# Altium schematic symbol library Connectors.SchLib: 60 symbols
Pins are listed as number, name and electrical type; pins without a type are passive.

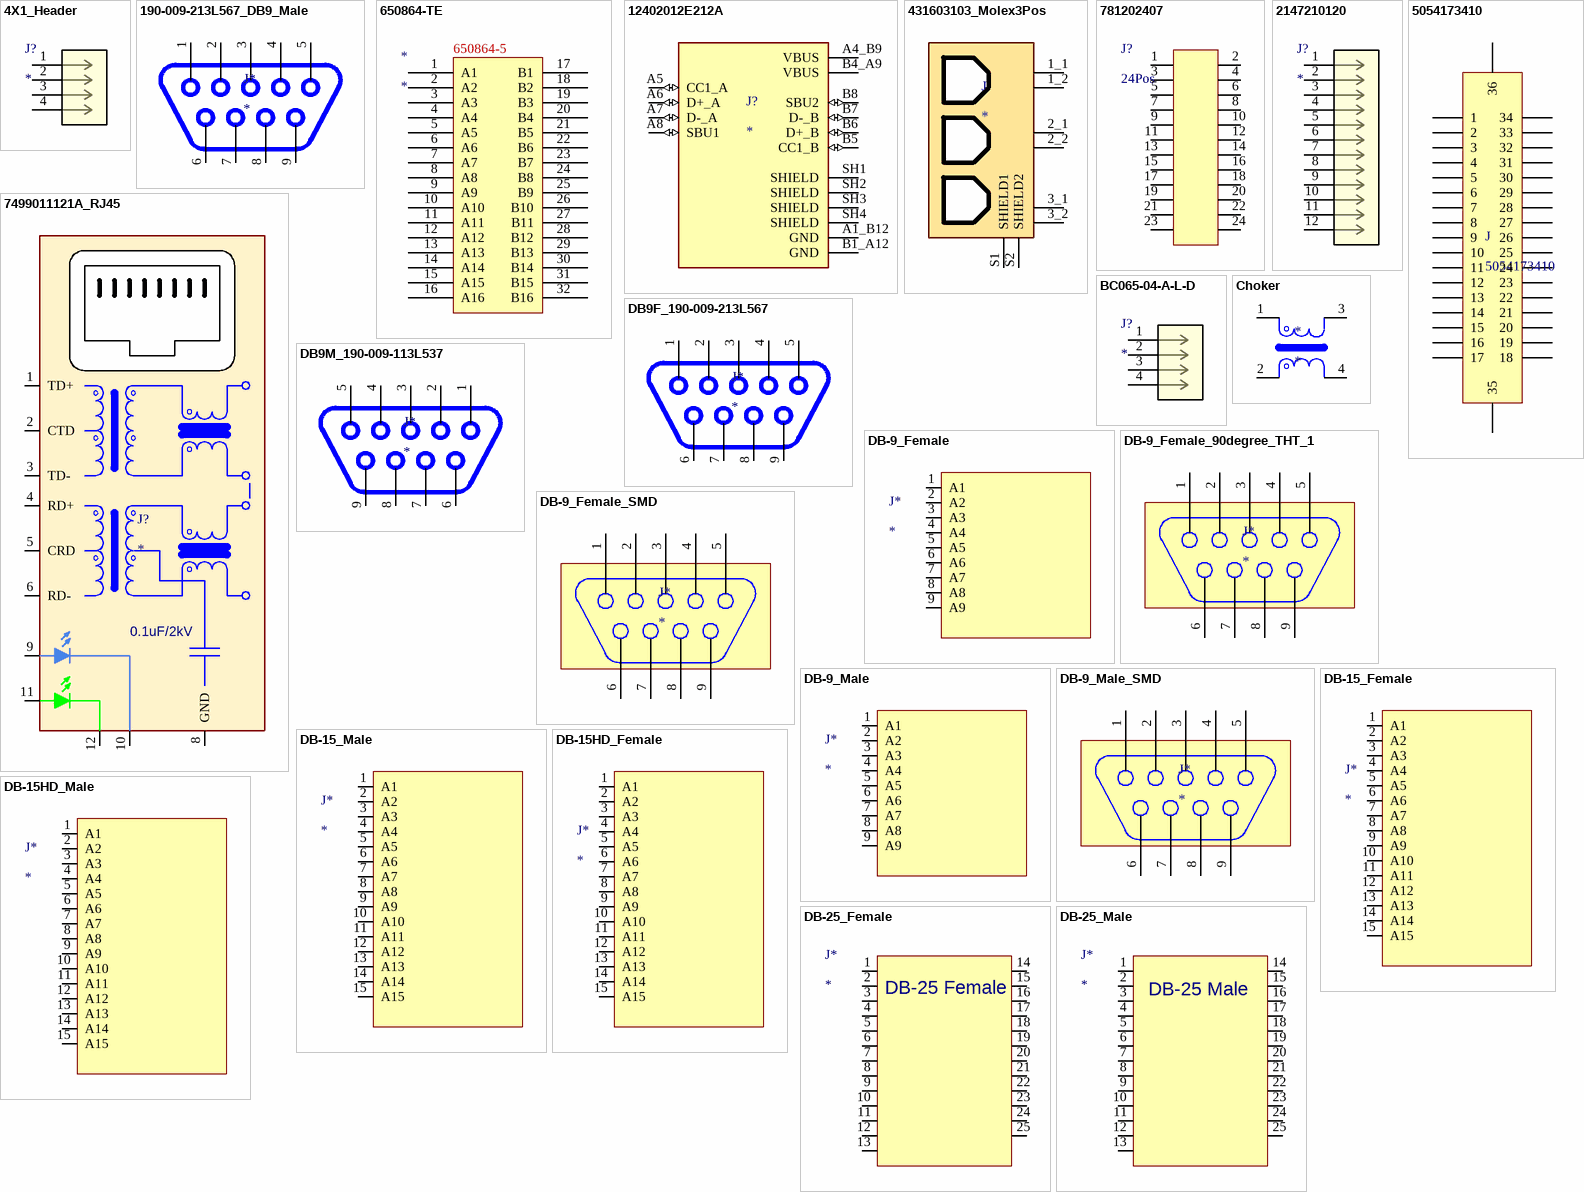
[diagram p0: symbols 4X1_Header to DB-25_Male]

## 4X1_Header
designator J?
No Description Available; Mfr_Name: Global Connector Technology; Type: Headers, Receptacles, Female Sockets; RefDes: RefDes
footprint 4x1_Header
pins: 1, 2, 3, 4

## 190-009-213L567_DB9_Male
designator J*
DB9_Male_90_degree
footprint DB9_Female-SMD (Footprint not found)
pins: 1 A1, 2 A2, 3 A3, 4 A4, 5 A5, 6 A6, 7 A7, 8 A8, 9 A9

## 650864-TE
designator *
footprint 650864-TE (Footprint not found)
pins: 1 A1, 2 A2, 3 A3, 4 A4, 5 A5, 6 A6, 7 A7, 8 A8, 9 A9, 10 A10, 11 A11, 12 A12, 13 A13, 14 A14, 15 A15, 16 A16, 17 B1, 18 B2, 19 B3, 20 B4, 21 B5, 22 B6, 23 B7, 24 B8, 25 B9, 26 B10, 27 B11, 28 B12, 29 B13, 30 B14, 31 B15, 32 B16
text: 650864-5

## 12402012E212A
designator J?
USB2.0, Type C, Top mount, CH 1.68mm, Dual Row SMT; MP: 12402012E212A; MF: Amphenol ICC (Commercial Products); Price: None; Package: None; Availability: In Stock; SnapEDA_Link: https://www.snapeda.com/parts/12402012E212A/Amphenol/view-part/?ref=snap; Value: *; Check_prices: https://www.snapeda.com/parts/12402012E212A/Amphenol/view-part/?ref=eda; Purchase-URL: https://pricing.snapeda.com/search/part/12402012E212A/?ref=eda
footprint AMPHENOL_12402012E212A
pins: A1_B12 GND, A4_B9 VBUS (power), A5 CC1_A (io), A6 D+_A (io), A7 D-_A (io), A8 SBU1 (io), B1_A12 GND, B4_A9 VBUS (power), B5 CC1_B (io), B6 D+_B (io), B7 D-_B (io), B8 SBU2 (io), SH1 SHIELD, SH2 SHIELD, SH3 SHIELD, SH4 SHIELD

## 431603103_Molex3Pos
designator J
pins: 1_1, 1_2, 2_1, 2_2, 3_1, 3_2, S1 SHIELD1, S2 SHIELD2

## 781202407
designator J?, comment 24Pos
MP: 781202407; Package: None; Price: None; Value: *; Availability: Unavailable
footprint CONN_781200001_24_MOL
pins: 1, 2, 3, 4, 5, 6, 7, 8, 9, 10, 11, 12, 13, 14, 15, 16, 17, 18, 19, 20, 21, 22, 23, 24

## 2147210120
designator J?
12-Pin Molex Conn; Mfr_Name: Molex Connector Corporation; RefDes: RefDes; Type: Type
footprint 2147210120_MOL_CONN12
pins: 1, 2, 3, 4, 5, 6, 7, 8, 9, 10, 11, 12

## 5054173410
designator J
2 x 17 + 2 x PWR Dual Row Header / NanoDrive Control Conn
footprint 5054173410 (Footprint not found)
pins: 1, 2, 3, 4, 5, 6, 7, 8, 9, 10, 11, 12, 13, 14, 15, 16, 17, 18, 19, 20, 21, 22, 23, 24, 25, 26, 27, 28, 29, 30, 31, 32, 33, 34, 35, 36

## 7499011121A_RJ45
designator J?
1 Port RJ45 Magjack Connector Through Hole 10/100 Base-TX, AutoMDIX; MP: J00-0065NL; MF: Pulse Electronics; Purchase-URL: https://pricing.snapeda.com/search/part/J00-0065NL/?ref=eda; Package: None; Price: None; Availability: Good; SnapEDA_Link: https://www.snapeda.com/parts/J00-0065NL/Pulse%20Electronics%20Network/view-part/46850/?ref=snap; Value: *; Check_prices: https://www.snapeda.com/parts/J00-0065NL/Pulse%20Electronics%20Network/view-part/46850/?ref=eda
footprint 7499011121A_RJ45 (Footprint not found)
pins: 1 TD+, 2 CTD, 3 TD-, 4 RD+, 5 CRD, 6 RD-, 8 GND, 9 LL1, 10 LL2, 11 RL1, 12 RL2
text: 0.1uF/2kV

## BC065-04-A-L-D
designator J?
STLink Programmer 4Pos 1.27mm Pitch; Mfr_Name: Global Connector Technology; Type: Headers, Receptacles, Female Sockets; RefDes: RefDes
footprint CONN4_BC065_189x59_GCT
pins: 1, 2, 3, 4

## Choker
designator *
Choker 2 Lane / SRF1280-4R7Y
pins: 1, 2, 3 4, 4

## DB9F_190-009-213L567
designator J*
DB9_Female_90_degree
footprint DB9F_190-009-213L567
pins: 1 A1, 2 A2, 3 A3, 4 A4, 5 A5, 6 A6, 7 A7, 8 A8, 9 A9

## DB9M_190-009-113L537
designator J*
DB9_Female_90_degree
footprint DB9M_190-009-113L537 (Footprint not found)
pins: 1 A1, 2 A2, 3 A3, 4 A4, 5 A5, 6 A6, 7 A7, 8 A8, 9 A9

## DB-9_Female
designator J*
footprint DB9_Female (SD9S-TRAY)
pins: 1 A1, 2 A2, 3 A3, 4 A4, 5 A5, 6 A6, 7 A7, 8 A8, 9 A9

## DB-9_Female_90degree_THT_1
designator J*
A-DF 09 A/KG-T2S
footprint DB9_Female_THT_90degree - duplicate
pins: 1 A1, 2 A2, 3 A3, 4 A4, 5 A5, 6 A6, 7 A7, 8 A8, 9 A9

## DB-9_Female_SMD
designator J*
A-DF 09 A/KG-T2S
footprint DB9_Female-SMD (Footprint not found)
pins: 1 A1, 2 A2, 3 A3, 4 A4, 5 A5, 6 A6, 7 A7, 8 A8, 9 A9

## DB-9_Male
designator J*
footprint DB9_Male (Footprint not found)
pins: 1 A1, 2 A2, 3 A3, 4 A4, 5 A5, 6 A6, 7 A7, 8 A8, 9 A9

## DB-9_Male_SMD
designator J*
A-DF 09 A/KG-T2S
footprint DB9_Male-SMD (SD9S-TRAY)
pins: 1 A1, 2 A2, 3 A3, 4 A4, 5 A5, 6 A6, 7 A7, 8 A8, 9 A9

## DB-15_Female
designator J*
footprint DB15_Female (SD9S-TRAY)
pins: 1 A1, 2 A2, 3 A3, 4 A4, 5 A5, 6 A6, 7 A7, 8 A8, 9 A9, 10 A10, 11 A11, 12 A12, 13 A13, 14 A14, 15 A15

## DB-15_Male
designator J*
footprint DB15_Male (SD9S-TRAY)
pins: 1 A1, 2 A2, 3 A3, 4 A4, 5 A5, 6 A6, 7 A7, 8 A8, 9 A9, 10 A10, 11 A11, 12 A12, 13 A13, 14 A14, 15 A15

## DB-15HD_Female
designator J*
footprint DB15HD_FEMALE
pins: 1 A1, 2 A2, 3 A3, 4 A4, 5 A5, 6 A6, 7 A7, 8 A8, 9 A9, 10 A10, 11 A11, 12 A12, 13 A13, 14 A14, 15 A15

## DB-15HD_Male
designator J*
footprint DB15HD_MALE
pins: 1 A1, 2 A2, 3 A3, 4 A4, 5 A5, 6 A6, 7 A7, 8 A8, 9 A9, 10 A10, 11 A11, 12 A12, 13 A13, 14 A14, 15 A15

## DB-25_Female
designator J*
footprint DB25_Female (SD9S-TRAY)
pins: 1, 2, 3, 4, 5, 6, 7, 8, 9, 10, 11, 12, 13, 14, 15, 16, 17, 18, 19, 20, 21, 22, 23, 24, 25
text: DB-25 Female

## DB-25_Male
designator J*
footprint DB25_Male (SD9S-TRAY)
pins: 1, 2, 3, 4, 5, 6, 7, 8, 9, 10, 11, 12, 13, 14, 15, 16, 17, 18, 19, 20, 21, 22, 23, 24, 25
text: DB-25 Male

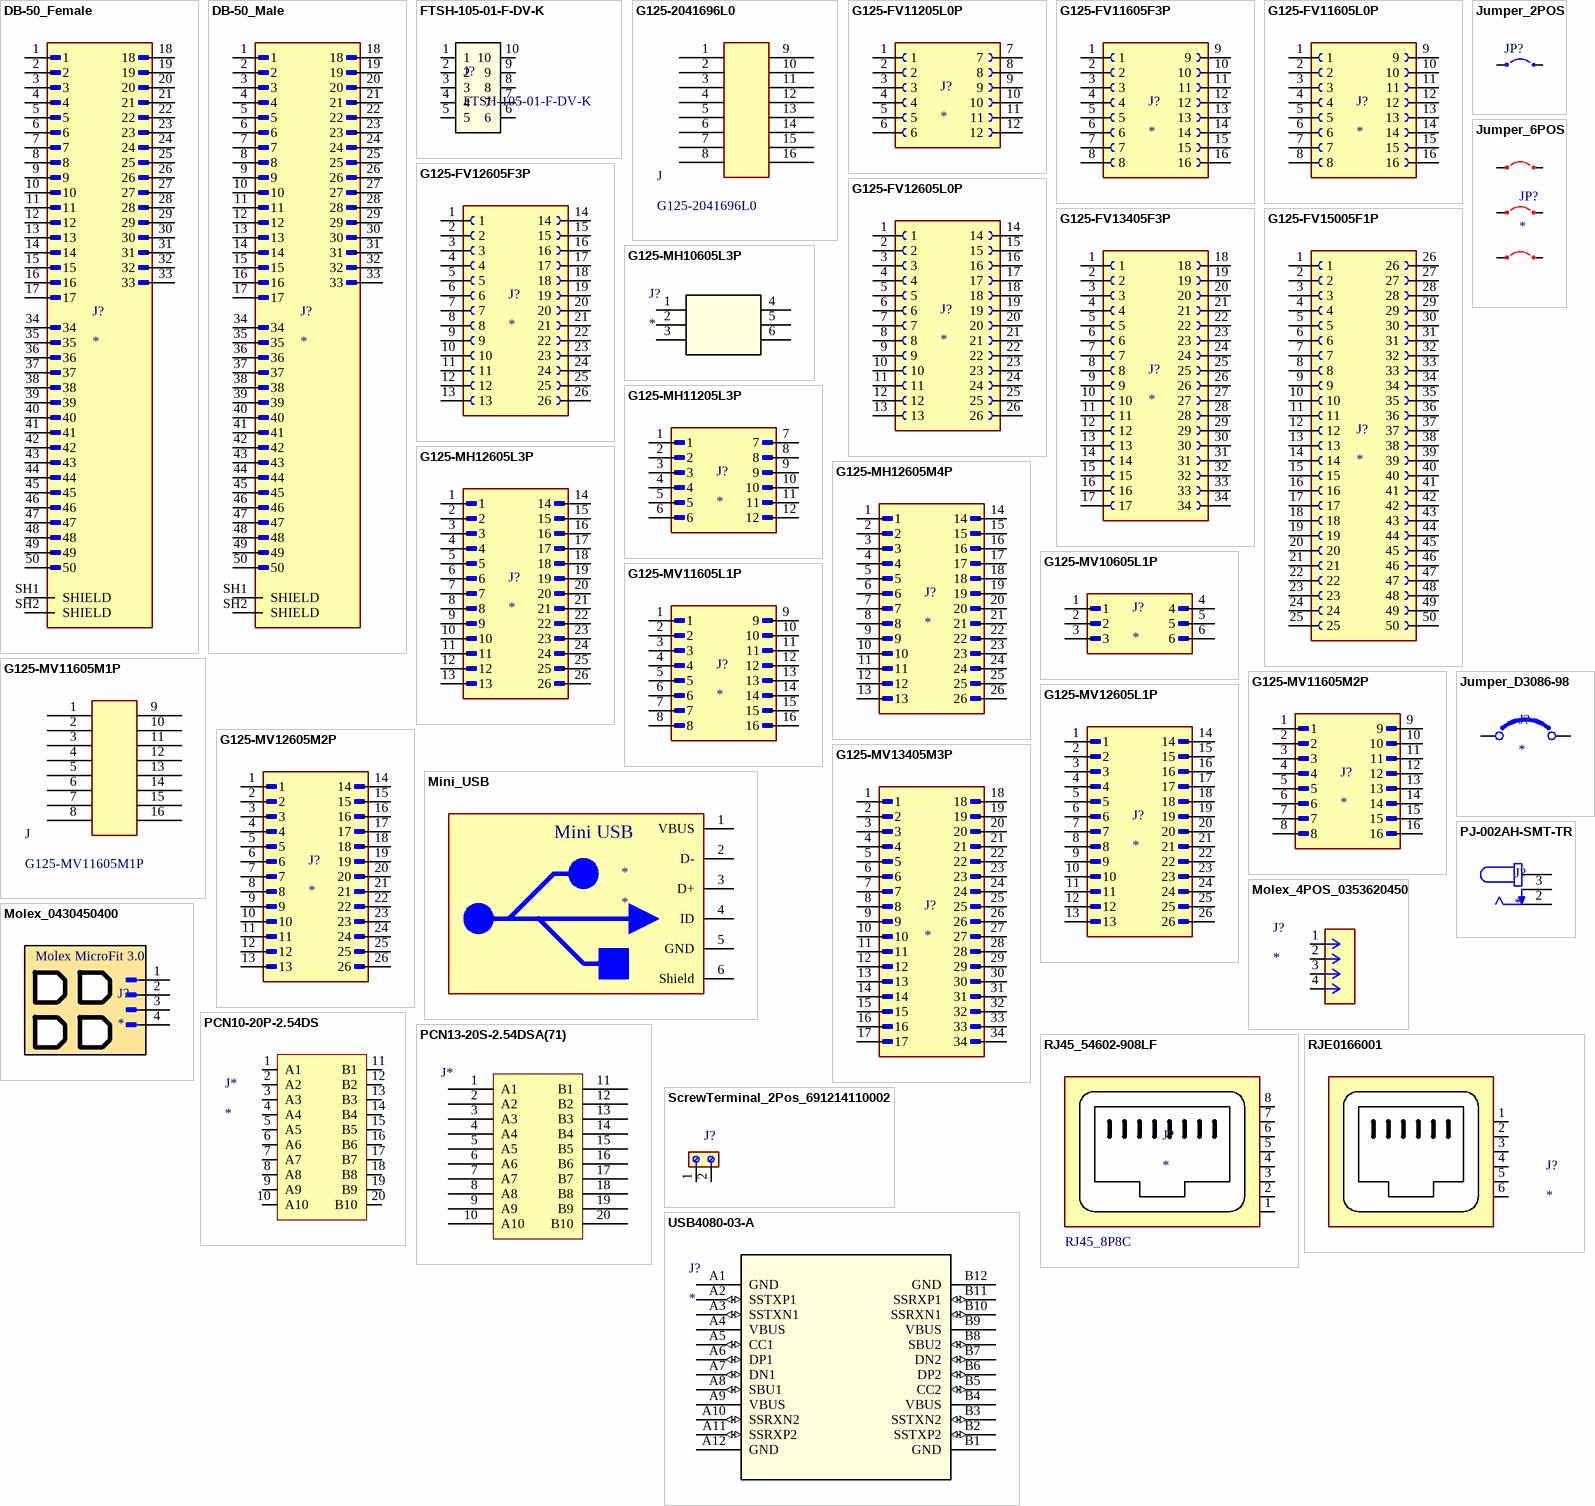
[diagram p1: symbols DB-50_Female to USB4080-03-A]

## DB-50_Female
designator J?
50 Position D-Sub Plug / Cirris Wire Adapter; MF: Hirose Electric Co Ltd; MP: SDDB-50P(55); SnapEDA_Link: https://www.snapeda.com/parts/SDDB-50P(55)/Hirose+Electric+Co+Ltd/view-part/?ref=snap; Package: None; Value: *; Check_prices: https://www.snapeda.com/parts/SDDB-50P(55)/Hirose+Electric+Co+Ltd/view-part/?ref=eda
footprint DB50_Female
pins: 1, 2, 3, 4, 5, 6, 7, 8, 9, 10, 11, 12, 13, 14, 15, 16, 17, 18, 19, 20, 21, 22, 23, 24, 25, 26, 27, 28, 29, 30, 31, 32, 33, 34, 35, 36, 37, 38, 39, 40, 41, 42, 43, 44, 45, 46, 47, 48, 49, 50, SH1 SHIELD, SH2 SHIELD

## DB-50_Male
designator J?
50 Position D-Sub Plug / Cirris Wire Adapter; MF: Hirose Electric Co Ltd; MP: SDDB-50P(55); SnapEDA_Link: https://www.snapeda.com/parts/SDDB-50P(55)/Hirose+Electric+Co+Ltd/view-part/?ref=snap; Package: None; Value: *; Check_prices: https://www.snapeda.com/parts/SDDB-50P(55)/Hirose+Electric+Co+Ltd/view-part/?ref=eda
footprint DB50_Male
pins: 1, 2, 3, 4, 5, 6, 7, 8, 9, 10, 11, 12, 13, 14, 15, 16, 17, 18, 19, 20, 21, 22, 23, 24, 25, 26, 27, 28, 29, 30, 31, 32, 33, 34, 35, 36, 37, 38, 39, 40, 41, 42, 43, 44, 45, 46, 47, 48, 49, 50, SH1 SHIELD, SH2 SHIELD

## FTSH-105-01-F-DV-K
designator J?
JTAG; Manufacturer_Name: Samtec Inc; Copyright: Copyright (C) 2025 Ultra Librarian. All rights reserved.; Manufacturer_Part_Number: FTSH-105-01-F-DV-K; RefDes: RefDes; Type: Type
footprint FTSH-105-01-F-DV-K_SAI
pins: 1, 2, 3, 4, 5, 6, 7, 8, 9, 10

## G125-2041696L0
designator J
G125-2041696L0 / Harwin Inc. / CONN RCPT HSG 16POS 1.25MM
footprint HARWIN_G125-2041696L0 (Footprint not found)
pins: 1, 2, 3, 4, 5, 6, 7, 8, 9, 10, 11, 12, 13, 14, 15, 16

## G125-FV11205L0P
designator J?
MP: G125-FV11205L0P; Package: None; Price: None; Value: *; Availability: Unavailable
footprint HARWIN_G125-FV11205L0P
pins: 1, 2, 3, 4, 5, 6, 7, 8, 9, 10, 11, 12

## G125-FV11605F3P
designator J?
MF: {'manufacturer': u'Harwin Inc.'}; MP: G125-FV11605F3P; Package: None; Price: None; Value: *; Availability: Unavailable
footprint HARWIN_G125-FV11605F3P_THT
pins: 1, 2, 3, 4, 5, 6, 7, 8, 9, 10, 11, 12, 13, 14, 15, 16

## G125-FV11605L0P
designator J?
MP: G125-FV11605L0P; Package: None; Price: None; Value: *; Availability: Unavailable
footprint HARWIN_G125-FV11605L0P_THT
pins: 1, 2, 3, 4, 5, 6, 7, 8, 9, 10, 11, 12, 13, 14, 15, 16

## G125-FV12605F3P
designator J?
MF: Harwin; MP: G125-FV12605F3P; Package: None; Price: None; Value: *; Availability: Unavailable
footprint HARWIN_G125-FV12605F3P_THT
pins: 1, 2, 3, 4, 5, 6, 7, 8, 9, 10, 11, 12, 13, 14, 15, 16, 17, 18, 19, 20, 21, 22, 23, 24, 25, 26

## G125-FV12605L0P
designator J?
MP: G125-FV12605L0P; Package: None; Price: None; Value: *; Availability: Unavailable
footprint HARWIN_G125-FV12605L0P
pins: 1, 2, 3, 4, 5, 6, 7, 8, 9, 10, 11, 12, 13, 14, 15, 16, 17, 18, 19, 20, 21, 22, 23, 24, 25, 26

## G125-FV13405F3P
designator J?
Gecko-SL DIL Female Vertical Throughboard Connector, Reverse fix with 5mm board mount studs, gold, pick & place (cut tape packing), 17+17 contacts; MF: Harwin; MP: G125-FV13405F3P; SnapEDA_Link: https://www.snapeda.com/parts/G125-FV13405F3P/Harwin/view-part/?ref=snap; Package: None; Value: *; Check_prices: https://www.snapeda.com/parts/G125-FV13405F3P/Harwin/view-part/?ref=eda
footprint HARWIN_G125-FV13405F3P
pins: 1, 2, 3, 4, 5, 6, 7, 8, 9, 10, 11, 12, 13, 14, 15, 16, 17, 18, 19, 20, 21, 22, 23, 24, 25, 26, 27, 28, 29, 30, 31, 32, 33, 34

## G125-FV15005F1P
designator J?
MF: Harwin; MP: G125-FV15005F1P; Package: None; Price: None; Value: *; Availability: Unavailable
footprint HARWIN_G125-FV15005F1P
pins: 1, 2, 3, 4, 5, 6, 7, 8, 9, 10, 11, 12, 13, 14, 15, 16, 17, 18, 19, 20, 21, 22, 23, 24, 25, 26, 27, 28, 29, 30, 31, 32, 33, 34, 35, 36, 37, 38, 39, 40, 41, 42, 43, 44, 45, 46, 47, 48, 49, 50

## G125-MH10605L3P
designator J?
No Description Available; Mfr_Name: Harwin; RefDes: RefDes; Type: Type
footprint HARWIN_G125-MH10605L3P
pins: 1, 2, 3, 4, 5, 6

## G125-MH11205L3P
designator J?
MP: G125-MH11205L3P; Package: None; Price: None; Value: *; Availability: Unavailable
footprint HARWIN_G125-MH11205L3P
pins: 1, 2, 3, 4, 5, 6, 7, 8, 9, 10, 11, 12

## G125-MH12605L3P
designator J?
MF: Harwin; MP: G125-MH12605L3P; Package: None; Price: None; Value: *; Availability: Unavailable
footprint HARWIN_G125-MH12605L3P
pins: 1, 2, 3, 4, 5, 6, 7, 8, 9, 10, 11, 12, 13, 14, 15, 16, 17, 18, 19, 20, 21, 22, 23, 24, 25, 26

## G125-MH12605M4P
designator J?
MP: G125-MH12605M4P; Package: None; Price: None; Value: *; Availability: Unavailable
footprint HARWIN_G125-MH12605M4P
pins: 1, 2, 3, 4, 5, 6, 7, 8, 9, 10, 11, 12, 13, 14, 15, 16, 17, 18, 19, 20, 21, 22, 23, 24, 25, 26

## G125-MV10605L1P
designator J?
MF: {'manufacturer': u'Harwin Inc.'}; MP: G125-MV10605L1P; Package: None; Price: None; Value: *; Availability: Unavailable
footprint HARWIN_G125-MV10605L1P_THT
pins: 1, 2, 3, 4, 5, 6

## G125-MV11605L1P
designator J?
Gecko DIL Male Vertical 3mm Throughboard Connector, Latches for 1.6mm thick PCB, gold, pick & place (cut tape packing), 8+8 contacts; MF: Harwin; MP: G125-MV11605L1P; SnapEDA_Link: https://www.snapeda.com/parts/G125-MV11605L1P/Harwin+Inc./view-part/?ref=snap; Package: None; Value: *; Check_prices: https://www.snapeda.com/parts/G125-MV11605L1P/Harwin+Inc./view-part/?ref=eda
footprint HARWIN_G125-MV11605L1P_THT
pins: 1, 2, 3, 4, 5, 6, 7, 8, 9, 10, 11, 12, 13, 14, 15, 16

## G125-MV11605M1P
designator J
CONN HEADER VERT 16POS 1.25MM Custom Library
footprint HARWIN_G125-MV11605M1P
pins: 1, 2, 3, 4, 5, 6, 7, 8, 9, 10, 11, 12, 13, 14, 15, 16

## G125-MV11605M2P
designator J?
MP: G125-MV11605M2P; Package: None; Price: None; Value: *; Availability: Unavailable
footprint HARWIN_G125-MV11605M2P
pins: 1, 2, 3, 4, 5, 6, 7, 8, 9, 10, 11, 12, 13, 14, 15, 16

## G125-MV12605L1P
designator J?
MF: {'manufacturer': u'Harwin Inc.'}; MP: G125-MV12605L1P; Package: None; Price: None; Value: *; Availability: Unavailable
footprint HARWIN_G125-MV12605L1P
pins: 1, 2, 3, 4, 5, 6, 7, 8, 9, 10, 11, 12, 13, 14, 15, 16, 17, 18, 19, 20, 21, 22, 23, 24, 25, 26

## G125-MV12605M2P
designator J?
MP: G125-MV12605M2P; Package: None; Price: None; Value: *; Availability: Unavailable
footprint HARWIN_G125-MV12605M2P_THT
pins: 1, 2, 3, 4, 5, 6, 7, 8, 9, 10, 11, 12, 13, 14, 15, 16, 17, 18, 19, 20, 21, 22, 23, 24, 25, 26

## G125-MV13405M3P
designator J?
MP: G125-MV13405M3P; Package: None; Price: None; Value: *; Availability: Unavailable
footprint HARWIN_G125-MV13405M3P (Footprint not found)
footprint HARWIN_G125-MV13405M3P_THT
pins: 1, 2, 3, 4, 5, 6, 7, 8, 9, 10, 11, 12, 13, 14, 15, 16, 17, 18, 19, 20, 21, 22, 23, 24, 25, 26, 27, 28, 29, 30, 31, 32, 33, 34

## Jumper_2POS
designator JP?  (value not drawn)
M20-9990246
footprint Jumper_2POS
pins: 1, 2

## Jumper_6POS
designator JP?
footprint Jumper_6POS
pins: 1, 2, 3, 4, 5, 6

## Jumper_D3086-98
designator J?
D3086-98; Package: None; Price: None; Value: *; MP: D3086-98; Availability: Unavailable
footprint HARWIN_D3086-98
pins: 1, 2

## Mini_USB
designator *
0675031020 Molex
footprint MINI_USB (Footprint not found)
pins: 1 VBUS, 2 D-, 3 D+, 4 ID, 5 GND, 6 Shield
text: Mini USB

## Molex_4POS_0353620450
designator J?
Molex 0353620450 / 2.00mm pitch / Connector Header Through Hole 4 position 0.079" (2.00mm); Package: None; Price: None; Value: *; MP: 353620450; Availability: Unavailable
footprint Molex_4POS_0353620450 (Connector Header Through Hole 4 position 0.079" (2.00mm))
pins: 1, 2, 3, 4

## Molex_0430450400
designator J?
Conn Wire to Board HDR 4 POS 3mm Solder RA Side Entry Thru-Hole Micro-Fit 3.0 Tray; MF: Molex; MP: 430450400; SnapEDA_Link: https://www.snapeda.com/parts/430450400/Molex/view-part/?ref=snap; Package: None; Value: *; Check_prices: https://www.snapeda.com/parts/430450400/Molex/view-part/?ref=eda
footprint MOLEX_0430450400
pins: 1, 2, 3, 4
text: Molex MicroFit 3.0

## PCN10-20P-2.54DS
designator J*
footprint PCN10-20P-2.54DS
pins: 1 A1, 2 A2, 3 A3, 4 A4, 5 A5, 6 A6, 7 A7, 8 A8, 9 A9, 10 A10, 11 B1, 12 B2, 13 B3, 14 B4, 15 B5, 16 B6, 17 B7, 18 B8, 19 B9, 20 B10

## PCN13-20S-2.54DSA(71)
designator J*
footprint PCBComponent_1
pins: 1 A1, 2 A2, 3 A3, 4 A4, 5 A5, 6 A6, 7 A7, 8 A8, 9 A9, 10 A10, 11 B1, 12 B2, 13 B3, 14 B4, 15 B5, 16 B6, 17 B7, 18 B8, 19 B9, 20 B10

## PJ-002AH-SMT-TR
designator J?
2.0 x 6.5 mm, 5.0 A, Horizontal, Surface Mount (SMT), Dc Power Jack Connector; MF: Same Sky; MP: PJ-002AH-SMT-TR; SnapEDA_Link: https://www.snapeda.com/parts/PJ-002AH-SMT-TR/Same+Sky/view-part/?ref=snap; Package: None; Value: *; Check_prices: https://www.snapeda.com/parts/PJ-002AH-SMT-TR/Same+Sky/view-part/?ref=eda
footprint CUI_PJ-002AH-SMT-TR
pins: 1A 1, 1B 1, 2, 3

## RJ45_54602-908LF
designator J?  value RJ45_8P8C
Modular Jack, Input Output Connectors, Cat 3 Single Modular Jack, Horizontal, Board Through Mount, 8P8C, 1 Port; MF: Amphenol ICC; MP: 54602-908LF; Package: None; Price: None; Check_prices: https://www.snapeda.com/parts/54602-908LF/Amphenol+FCI/view-part/?ref=eda; SnapEDA_Link: https://www.snapeda.com/parts/54602-908LF/Amphenol+FCI/view-part/?ref=snap; Availability: In Stock; Purchase-URL: https://pricing.snapeda.com/search?q=54602-908LF&ref=eda
footprint AMPHENOL_54602-908LF
pins: 1, 2, 3, 4, 5, 6, 7, 8

## RJE0166001
designator J?
RJ45_6P6C; MF: Amphenol ICC (Commercial Products); MP: RJE0166001; Package: None; Price: None; Value: *; Availability: Unavailable
footprint AMPHENOL_RJE0166001
pins: 1 P1, 2 P2, 3 P3, 4 P4, 5 P5, 6 P6

## ScrewTerminal_2Pos_691214110002
designator J?
2 Position Wire to Board Terminal Block Horizontal with Board 0.138 (3.50mm) Through Hole; MF: WÃ¼rth Elektronik; MP: 691214110002; SnapEDA_Link: https://www.snapeda.com/parts/691214110002/W%25C3%25BCrth+Elektronik+Midcom/view-part/?ref=snap; Package: None; Value: *; Check_prices: https://www.snapeda.com/parts/691214110002/W%25C3%25BCrth+Elektronik+Midcom/view-part/?ref=eda
footprint 691214110002 (Footprint not found)
pins: 1, 2

## USB4080-03-A
designator J?
used in NanoDrive Motherboard / Digikey 2073-USB4080-03-ACT-ND; Mfr_Name: Global Connector Technology; RefDes: RefDes; Type: Type
footprint USB4080-03-A_GCT
pins: A1 GND (power), A2 SSTXP1 (io), A3 SSTXN1 (io), A4 VBUS (power), A5 CC1 (io), A6 DP1 (io), A7 DN1 (io), A8 SBU1 (io), A9 VBUS (power), A10 SSRXN2 (io), A11 SSRXP2 (io), A12 GND (power), B1 GND (power), B2 SSTXP2 (io), B3 SSTXN2 (io), B4 VBUS (power), B5 CC2 (io), B6 DP2 (io), B7 DN2 (io), B8 SBU2 (io), B9 VBUS (power), B10 SSRXN1 (io), B11 SSRXP1 (io), B12 GND (power)

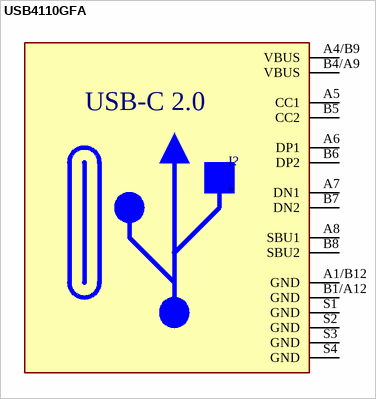
[diagram p2: symbol USB4110GFA]

## USB4110GFA
designator J?
USB-C (USB TYPE-C) USB 2.0 Receptacle Connector 24 (16+8 Dummy) Position Surface Mount, Right Angle; MF: Global Connector Technology; MP: USB4110GFA; SnapEDA_Link: https://www.snapeda.com/parts/USB4110GFA/Global+Connector+Technology/view-part/?ref=snap; Package: None; Value: *; Check_prices: https://www.snapeda.com/parts/USB4110GFA/Global+Connector+Technology/view-part/?ref=eda
footprint GCT_USB4110GFA
pins: A1/B12 GND (power), A4/B9 VBUS (power), A5 CC1, A6 DP1, A7 DN1, A8 SBU1, B1/A12 GND (power), B4/A9 VBUS (power), B5 CC2, B6 DP2, B7 DN2, B8 SBU2, S1 GND (power), S2 GND (power), S3 GND (power), S4 GND (power)
text: USB-C 2.0